# Altium schematic symbol library MicroSD.SchLib: 2 symbols
Pins are listed as number, name and electrical type; pins without a type are passive.

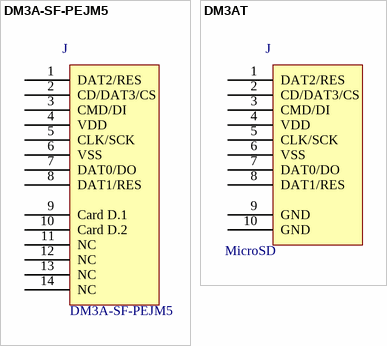
[diagram p0: symbols DM3A-SF-PEJM5 to DM3AT]

## DM3A-SF-PEJM5
designator J  value DM3A-SF-PEJM5  (hidden comment: *)
Manufacturer Code: DM3AT-SF-PEJM5(40); Manufacturer: HRS (HIROSE); Farnell Code: 1764374; Unit Price: 1,87 €
footprint DM3A-SF-PEJM5
pins: 1 DAT2/RES, 2 CD/DAT3/CS, 3 CMD/DI, 4 VDD, 5 CLK/SCK, 6 VSS, 7 DAT0/DO, 8 DAT1/RES, 9 Card D.1, 10 Card D.2, 11 NC, 12 NC, 13 NC, 14 NC

## DM3AT
designator J  value MicroSD  (hidden comment: *)
Manufacturer: HRS (HIROSE); Manufacturer Part Number: DM3AT-SF-PEJ; Farnell Order Code: 1764374
footprint MicroSD (Footprint not found)
pins: 1 DAT2/RES, 2 CD/DAT3/CS, 3 CMD/DI, 4 VDD, 5 CLK/SCK, 6 VSS, 7 DAT0/DO, 8 DAT1/RES, 9 GND, 10 GND